# Altium footprint library UJ2BHRGV.PcbLib: 1 footprints
Each footprint in its own frame and in the unit in brackets; x right, y up, seen from the top. Pads: shape width x height; smd on the part's side, far side on the other; paste and mask are expansions set on the pad; w line width, h text height; cw(c..) or ccw(c..) is an arc to the next point about the centre after c.
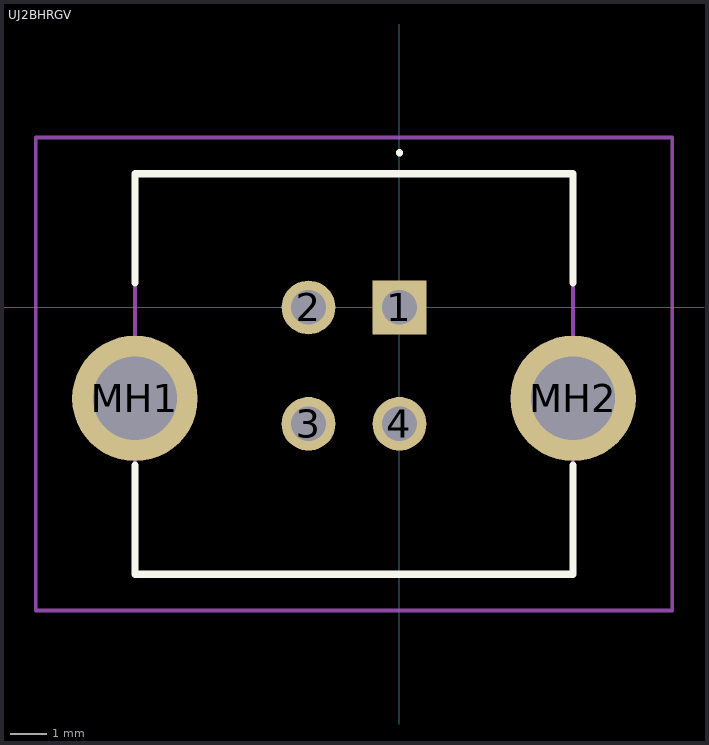
[diagram p0: the footprint, top view; thin cyan lines are the x and y axes]

## UJ2BHRGV [mm]
pads (6):
  rect 1.478x1.478 hole 0.95: 1(0,0)
  round 1.478 hole 0.95: 2(-2.5,0) 3(-2.5,-3.2) 4(0,-3.2)
  round 3.45 hole 2.3: MH1(-7.27,-2.5) MH2(4.77,-2.5)
Top Overlay:
  lines w0.1: 0,4.2 0,4.2 ; 0,4.2 ccw(c0,4.25) 0,4.3 ; 0,4.2 cw(c0,4.25) 0,4.3 ; 0,4.3 0,4.3
  lines w0.2: -7.27,-4.33 -7.27,-7.33 4.77,-7.33 4.77,-4.33 ; -7.27,0.67 -7.27,3.67 4.77,3.67 4.77,0.67
Mechanical 15:
  lines w0.1: -7.27,-7.33 4.77,-7.33 4.77,3.67 -7.27,3.67 -7.27,-7.33
Mechanical 20:
  lines w0.1: -9.995,-8.33 7.495,-8.33 7.495,4.67 -9.995,4.67 -9.995,-8.33